# EAGLE library part SN74HC595N (library 74hc595)
8-BIT SHIFT REGISTERS WITH 3-STATE OUTPUT REGISTERS
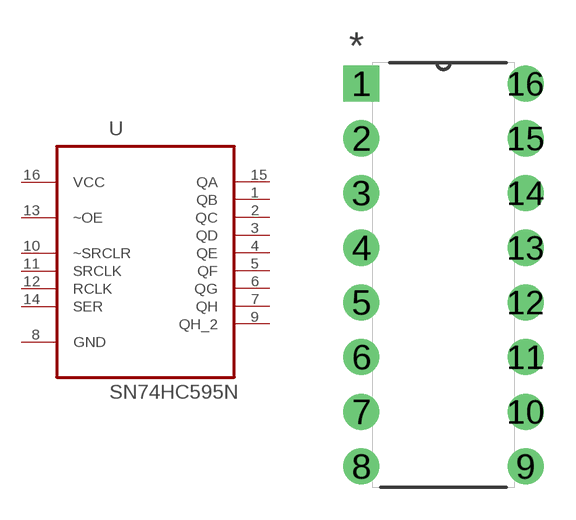
[diagram p0: symbol with the pads of DIP254P762X508-16; footprint DIP254P762X508-16]

Designator prefix U

## SN74HC595N (MPN: SN74HC595N; OC_FARNELL: 9591664; OC_NEWARK: 60K6845; PACKAGE: PDIP-16; SUPPLIER: Texas Instruments)  [DIP254P762X508-16]
1  QB  out
2  QC  out
3  QD  out
4  QE  out
5  QF  out
6  QG  out
7  QH  out
8  GND  pas
9  QH_2  out
10  ~SRCLR  in
11  SRCLK  in
12  RCLK  in
13  ~OE  in
14  SER  in
15  QA  out
16  VCC  pwr

## Footprint DIP254P762X508-16 (pad centres in mm)
drill 1.118 square: 1 -7.62,17.78
drill 1.118: 2 -7.62,15.24; 3 -7.62,12.7; 4 -7.62,10.16; 5 -7.62,7.62; 6 -7.62,5.08; 7 -7.62,2.54; 8 -7.62,0; 9 0,0; 10 0,2.54; 11 0,5.08; 12 0,7.62; 13 0,10.16; 14 0,12.7; 15 0,15.24; 16 0,17.78